# Altium schematic symbol library WE-MXGA.SchLib: 27 symbols
Pins are listed as number, name and electrical type; pins without a type are passive.

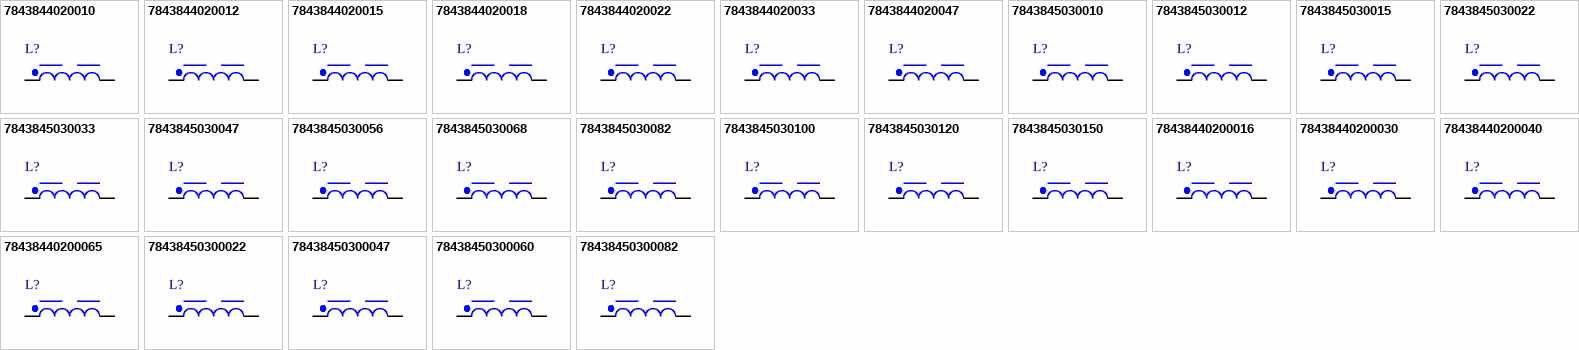
[diagram p0: symbols 7843844020010 to 78438450300082]

## 7843844020010
designator L?, comment 1μH  (value not drawn)
WE-MXGA SMT Power Inductor, size 4020, 1μH, 12.1A, 6.9mΩ; Manufacturer Part Number: 7843844020010; Manufacturer: Wurth Elektronik; Case/Size Code: 4020; DC Resistance Max: 7.9mΩ; Saturation Current @ 10%: 4.9A; Saturation Current @ 30%: 9.8A; Self Resonant Frequency: 59MHz; Category: Power Inductors; Match Code: WE-MXGA; ComponentLink1Description: Website Link; ComponentLink1URL: https://www.we-online.com/redexpert/article/7843844020010?ad; ComponentLink2Description: Datasheet Link; ComponentLink2URL: https://www.we-online.com/redexpert/spec/7843844020010?ad; Mount: Surface Mount; Min Operating Temperature: -40°C; Max Operating Temperature: 125°C; Packaging: Tape and Reel; Length: 4.1mm; Width: 4.1mm; Height: 2.1mm; DC Resistance: 6.9mΩ; Inductance: 1μH; Performance Rated Current: 12.1A; Automotive: Yes
footprint WE-MXGA_4020
footprint WE-MXGA_4020_IPC-7351
pins: 1, 2

## 7843844020012
designator L?, comment 1.2μH  (value not drawn)
WE-MXGA SMT Power Inductor, size 4020, 1.2μH, 11A, 8.4mΩ; Manufacturer Part Number: 7843844020012; Manufacturer: Wurth Elektronik; Case/Size Code: 4020; DC Resistance Max: 9.8mΩ; Saturation Current @ 10%: 4.3A; Saturation Current @ 30%: 8.8A; Self Resonant Frequency: 53MHz; Category: Power Inductors; Match Code: WE-MXGA; ComponentLink1Description: Website Link; ComponentLink1URL: https://www.we-online.com/redexpert/article/7843844020012?ad; ComponentLink2Description: Datasheet Link; ComponentLink2URL: https://www.we-online.com/redexpert/spec/7843844020012?ad; Mount: Surface Mount; Min Operating Temperature: -40°C; Max Operating Temperature: 125°C; Packaging: Tape and Reel; Length: 4.1mm; Width: 4.1mm; Height: 2.1mm; DC Resistance: 8.4mΩ; Inductance: 1.2μH; Performance Rated Current: 11A; Automotive: Yes
footprint WE-MXGA_4020
footprint WE-MXGA_4020_IPC-7351
pins: 1, 2

## 7843844020015
designator L?, comment 1.5μH  (value not drawn)
WE-MXGA SMT Power Inductor, size 4020, 1.5μH, 10.3A, 10mΩ; Manufacturer Part Number: 7843844020015; Manufacturer: Wurth Elektronik; Case/Size Code: 4020; DC Resistance Max: 11.5mΩ; Saturation Current @ 10%: 4.1A; Saturation Current @ 30%: 8.4A; Self Resonant Frequency: 50MHz; Category: Power Inductors; Match Code: WE-MXGA; ComponentLink1Description: Website Link; ComponentLink1URL: https://www.we-online.com/redexpert/article/7843844020015?ad; ComponentLink2Description: Datasheet Link; ComponentLink2URL: https://www.we-online.com/redexpert/spec/7843844020015?ad; Mount: Surface Mount; Min Operating Temperature: -40°C; Max Operating Temperature: 125°C; Packaging: Tape and Reel; Length: 4.1mm; Width: 4.1mm; Height: 2.1mm; DC Resistance: 10mΩ; Inductance: 1.5μH; Performance Rated Current: 10.3A; Automotive: Yes
footprint WE-MXGA_4020
footprint WE-MXGA_4020_IPC-7351
pins: 1, 2

## 7843844020018
designator L?, comment 1.8μH  (value not drawn)
WE-MXGA SMT Power Inductor, size 4020, 1.8μH, 9.5A, 11.9mΩ; Manufacturer Part Number: 7843844020018; Manufacturer: Wurth Elektronik; Case/Size Code: 4020; DC Resistance Max: 13.6mΩ; Saturation Current @ 10%: 3.6A; Saturation Current @ 30%: 7.1A; Self Resonant Frequency: 42MHz; Category: Power Inductors; Match Code: WE-MXGA; ComponentLink1Description: Website Link; ComponentLink1URL: https://www.we-online.com/redexpert/article/7843844020018?ad; ComponentLink2Description: Datasheet Link; ComponentLink2URL: https://www.we-online.com/redexpert/spec/7843844020018?ad; Mount: Surface Mount; Min Operating Temperature: -40°C; Max Operating Temperature: 125°C; Packaging: Tape and Reel; Length: 4.1mm; Width: 4.1mm; Height: 2.1mm; DC Resistance: 11.9mΩ; Inductance: 1.8μH; Performance Rated Current: 9.5A; Automotive: Yes
footprint WE-MXGA_4020
footprint WE-MXGA_4020_IPC-7351
pins: 1, 2

## 7843844020022
designator L?, comment 2.2μH  (value not drawn)
WE-MXGA SMT Power Inductor, size 4020, 2.2μH, 7.8A, 15.6mΩ; Manufacturer Part Number: 7843844020022; Manufacturer: Wurth Elektronik; Case/Size Code: 4020; DC Resistance Max: 17.9mΩ; Saturation Current @ 10%: 2.9A; Saturation Current @ 30%: 5.8A; Self Resonant Frequency: 37MHz; Category: Power Inductors; Match Code: WE-MXGA; ComponentLink1Description: Website Link; ComponentLink1URL: https://www.we-online.com/redexpert/article/7843844020022?ad; ComponentLink2Description: Datasheet Link; ComponentLink2URL: https://www.we-online.com/redexpert/spec/7843844020022?ad; Mount: Surface Mount; Min Operating Temperature: -40°C; Max Operating Temperature: 125°C; Packaging: Tape and Reel; Length: 4.1mm; Width: 4.1mm; Height: 2.1mm; DC Resistance: 15.6mΩ; Inductance: 2.2μH; Performance Rated Current: 7.8A; Automotive: Yes
footprint WE-MXGA_4020
footprint WE-MXGA_4020_IPC-7351
pins: 1, 2

## 7843844020033
designator L?, comment 3.3μH  (value not drawn)
WE-MXGA SMT Power Inductor, size 4020, 3.3μH, 6.1A, 26.6mΩ; Manufacturer Part Number: 7843844020033; Manufacturer: Wurth Elektronik; Case/Size Code: 4020; DC Resistance Max: 30.6mΩ; Saturation Current @ 10%: 2.6A; Saturation Current @ 30%: 5.3A; Self Resonant Frequency: 29MHz; Category: Power Inductors; Match Code: WE-MXGA; ComponentLink1Description: Website Link; ComponentLink1URL: https://www.we-online.com/redexpert/article/7843844020033?ad; ComponentLink2Description: Datasheet Link; ComponentLink2URL: https://www.we-online.com/redexpert/spec/7843844020033?ad; Mount: Surface Mount; Min Operating Temperature: -40°C; Max Operating Temperature: 125°C; Packaging: Tape and Reel; Length: 4.1mm; Width: 4.1mm; Height: 2.1mm; DC Resistance: 26.6mΩ; Inductance: 3.3μH; Performance Rated Current: 6.1A; Automotive: Yes
footprint WE-MXGA_4020
footprint WE-MXGA_4020_IPC-7351
pins: 1, 2

## 7843844020047
designator L?, comment 4.7μH  (value not drawn)
WE-MXGA SMT Power Inductor, size 4020, 4.7μH, 5.2A, 40.3mΩ; Manufacturer Part Number: 7843844020047; Manufacturer: Wurth Elektronik; Case/Size Code: 4020; DC Resistance Max: 46.4mΩ; Saturation Current @ 10%: 2.8A; Saturation Current @ 30%: 5.7A; Self Resonant Frequency: 25MHz; Category: Power Inductors; Match Code: WE-MXGA; ComponentLink1Description: Website Link; ComponentLink1URL: https://www.we-online.com/redexpert/article/7843844020047?ad; ComponentLink2Description: Datasheet Link; ComponentLink2URL: https://www.we-online.com/redexpert/spec/7843844020047?ad; Mount: Surface Mount; Min Operating Temperature: -40°C; Max Operating Temperature: 125°C; Packaging: Tape and Reel; Length: 4.1mm; Width: 4.1mm; Height: 2.1mm; DC Resistance: 40.3mΩ; Inductance: 4.7μH; Performance Rated Current: 5.2A; Automotive: Yes
footprint WE-MXGA_4020
footprint WE-MXGA_4020_IPC-7351
pins: 1, 2

## 7843845030010
designator L?, comment 1μH  (value not drawn)
WE-MXGA SMT Power Inductor, size 5030, 1μH, 15.8A, 5.2mΩ; Manufacturer Part Number: 7843845030010; Manufacturer: Wurth Elektronik; Case/Size Code: 5030; DC Resistance Max: 5.8mΩ; Saturation Current @ 10%: 7A; Saturation Current @ 30%: 14.3A; Self Resonant Frequency: 52MHz; Category: Power Inductors; Match Code: WE-MXGA; ComponentLink1Description: Website Link; ComponentLink1URL: https://www.we-online.com/redexpert/article/7843845030010?ad; ComponentLink2Description: Datasheet Link; ComponentLink2URL: https://www.we-online.com/redexpert/spec/7843845030010?ad; Mount: Surface Mount; Min Operating Temperature: -40°C; Max Operating Temperature: 125°C; Packaging: Tape and Reel; Length: 5.4mm; Width: 5.4mm; Height: 3.1mm; DC Resistance: 5.2mΩ; Inductance: 1μH; Performance Rated Current: 15.8A; Automotive: Yes
footprint WE-MXGA_5030
pins: 1, 2

## 7843845030012
designator L?, comment 1.2μH  (value not drawn)
WE-MXGA SMT Power Inductor, size 5030, 1.2μH, 17.2A, 4.5mΩ; Manufacturer Part Number: 7843845030012; Manufacturer: Wurth Elektronik; Case/Size Code: 5030; DC Resistance Max: 5.2mΩ; Saturation Current @ 10%: 6.8A; Saturation Current @ 30%: 14.3A; Self Resonant Frequency: 43MHz; Category: Power Inductors; Match Code: WE-MXGA; ComponentLink1Description: Website Link; ComponentLink1URL: https://www.we-online.com/redexpert/article/7843845030012?ad; ComponentLink2Description: Datasheet Link; ComponentLink2URL: https://www.we-online.com/redexpert/spec/7843845030012?ad; Mount: Surface Mount; Min Operating Temperature: -40°C; Max Operating Temperature: 125°C; Packaging: Tape and Reel; Length: 5.4mm; Width: 5.4mm; Height: 3.1mm; DC Resistance: 4.5mΩ; Inductance: 1.2μH; Performance Rated Current: 17.2A; Automotive: Yes
footprint WE-MXGA_5030
pins: 1, 2

## 7843845030015
designator L?, comment 1.5μH  (value not drawn)
WE-MXGA SMT Power Inductor, size 5030, 1.5μH, 14.9A, 5.5mΩ; Manufacturer Part Number: 7843845030015; Manufacturer: Wurth Elektronik; Case/Size Code: 5030; DC Resistance Max: 6.3mΩ; Saturation Current @ 10%: 6A; Saturation Current @ 30%: 12.3A; Self Resonant Frequency: 36MHz; Category: Power Inductors; Match Code: WE-MXGA; ComponentLink1Description: Website Link; ComponentLink1URL: https://www.we-online.com/redexpert/article/7843845030015?ad; ComponentLink2Description: Datasheet Link; ComponentLink2URL: https://www.we-online.com/redexpert/spec/7843845030015?ad; Mount: Surface Mount; Min Operating Temperature: -40°C; Max Operating Temperature: 125°C; Packaging: Tape and Reel; Length: 5.4mm; Width: 5.4mm; Height: 3.1mm; DC Resistance: 5.5mΩ; Inductance: 1.5μH; Performance Rated Current: 14.9A; Automotive: Yes
footprint WE-MXGA_5030
pins: 1, 2

## 7843845030022
designator L?, comment 2.2μH  (value not drawn)
WE-MXGA SMT Power Inductor, size 5030, 2.2μH, 12.4A, 8.1mΩ; Manufacturer Part Number: 7843845030022; Manufacturer: Wurth Elektronik; Case/Size Code: 5030; DC Resistance Max: 9.3mΩ; Saturation Current @ 10%: 5.2A; Saturation Current @ 30%: 10.5A; Self Resonant Frequency: 35MHz; Category: Power Inductors; Match Code: WE-MXGA; ComponentLink1Description: Website Link; ComponentLink1URL: https://www.we-online.com/redexpert/article/7843845030022?ad; ComponentLink2Description: Datasheet Link; ComponentLink2URL: https://www.we-online.com/redexpert/spec/7843845030022?ad; Mount: Surface Mount; Min Operating Temperature: -40°C; Max Operating Temperature: 125°C; Packaging: Tape and Reel; Length: 5.4mm; Width: 5.4mm; Height: 3.1mm; DC Resistance: 8.1mΩ; Inductance: 2.2μH; Performance Rated Current: 12.4A; Automotive: Yes
footprint WE-MXGA_5030
pins: 1, 2

## 7843845030033
designator L?, comment 3.3μH  (value not drawn)
WE-MXGA SMT Power Inductor, size 5030, 3.3μH, 10A, 12.9mΩ; Manufacturer Part Number: 7843845030033; Manufacturer: Wurth Elektronik; Case/Size Code: 5030; DC Resistance Max: 14.8mΩ; Saturation Current @ 10%: 4A; Saturation Current @ 30%: 8.2A; Self Resonant Frequency: 25MHz; Category: Power Inductors; Match Code: WE-MXGA; ComponentLink1Description: Website Link; ComponentLink1URL: https://www.we-online.com/redexpert/article/7843845030033?ad; ComponentLink2Description: Datasheet Link; ComponentLink2URL: https://www.we-online.com/redexpert/spec/7843845030033?ad; Mount: Surface Mount; Min Operating Temperature: -40°C; Max Operating Temperature: 125°C; Packaging: Tape and Reel; Length: 5.4mm; Width: 5.4mm; Height: 3.1mm; DC Resistance: 12.9mΩ; Inductance: 3.3μH; Performance Rated Current: 10A; Automotive: Yes
footprint WE-MXGA_5030
pins: 1, 2

## 7843845030047
designator L?, comment 4.7μH  (value not drawn)
WE-MXGA SMT Power Inductor, size 5030, 4.7μH, 8.2A, 22.5mΩ; Manufacturer Part Number: 7843845030047; Manufacturer: Wurth Elektronik; Case/Size Code: 5030; DC Resistance Max: 24.5mΩ; Saturation Current @ 10%: 3.7A; Saturation Current @ 30%: 7.7A; Self Resonant Frequency: 21MHz; Category: Power Inductors; Match Code: WE-MXGA; ComponentLink1Description: Website Link; ComponentLink1URL: https://www.we-online.com/redexpert/article/7843845030047?ad; ComponentLink2Description: Datasheet Link; ComponentLink2URL: https://www.we-online.com/redexpert/spec/7843845030047?ad; Mount: Surface Mount; Min Operating Temperature: -40°C; Max Operating Temperature: 125°C; Packaging: Tape and Reel; Length: 5.4mm; Width: 5.4mm; Height: 3.1mm; DC Resistance: 22.5mΩ; Inductance: 4.7μH; Performance Rated Current: 8.2A; Automotive: Yes
footprint WE-MXGA_5030
pins: 1, 2

## 7843845030056
designator L?, comment 5.6μH  (value not drawn)
WE-MXGA SMT Power Inductor, size 5030, 5.6μH, 7.1A, 24.5mΩ; Manufacturer Part Number: 7843845030056; Manufacturer: Wurth Elektronik; Case/Size Code: 5030; DC Resistance Max: 27mΩ; Saturation Current @ 10%: 3.3A; Saturation Current @ 30%: 6.8A; Self Resonant Frequency: 19MHz; Category: Power Inductors; Match Code: WE-MXGA; ComponentLink1Description: Website Link; ComponentLink1URL: https://www.we-online.com/redexpert/article/7843845030056?ad; ComponentLink2Description: Datasheet Link; ComponentLink2URL: https://www.we-online.com/redexpert/spec/7843845030056?ad; Mount: Surface Mount; Min Operating Temperature: -40°C; Max Operating Temperature: 125°C; Packaging: Tape and Reel; Length: 5.4mm; Width: 5.4mm; Height: 3.1mm; DC Resistance: 24.5mΩ; Inductance: 5.6μH; Performance Rated Current: 7.1A; Automotive: Yes
footprint WE-MXGA_5030
pins: 1, 2

## 7843845030068
designator L?, comment 6.8μH  (value not drawn)
WE-MXGA SMT Power Inductor, size 5030, 6.8μH, 6.5A, 28.3mΩ; Manufacturer Part Number: 7843845030068; Manufacturer: Wurth Elektronik; Case/Size Code: 5030; DC Resistance Max: 31.7mΩ; Saturation Current @ 10%: 3.2A; Saturation Current @ 30%: 6.8A; Self Resonant Frequency: 18MHz; Category: Power Inductors; Match Code: WE-MXGA; ComponentLink1Description: Website Link; ComponentLink1URL: https://www.we-online.com/redexpert/article/7843845030068?ad; ComponentLink2Description: Datasheet Link; ComponentLink2URL: https://www.we-online.com/redexpert/spec/7843845030068?ad; Mount: Surface Mount; Min Operating Temperature: -40°C; Max Operating Temperature: 125°C; Packaging: Tape and Reel; Length: 5.4mm; Width: 5.4mm; Height: 3.1mm; DC Resistance: 28.3mΩ; Inductance: 6.8μH; Performance Rated Current: 6.5A; Automotive: Yes
footprint WE-MXGA_5030
pins: 1, 2

## 7843845030082
designator L?, comment 8.2μH  (value not drawn)
WE-MXGA SMT Power Inductor, size 5030, 8.2μH, 6.1A, 34mΩ; Manufacturer Part Number: 7843845030082; Manufacturer: Wurth Elektronik; Case/Size Code: 5030; DC Resistance Max: 39mΩ; Saturation Current @ 10%: 2.6A; Saturation Current @ 30%: 5.9A; Self Resonant Frequency: 15MHz; Category: Power Inductors; Match Code: WE-MXGA; ComponentLink1Description: Website Link; ComponentLink1URL: https://www.we-online.com/redexpert/article/7843845030082?ad; ComponentLink2Description: Datasheet Link; ComponentLink2URL: https://www.we-online.com/redexpert/spec/7843845030082?ad; Mount: Surface Mount; Min Operating Temperature: -40°C; Max Operating Temperature: 125°C; Packaging: Tape and Reel; Length: 5.4mm; Width: 5.4mm; Height: 3.1mm; DC Resistance: 34mΩ; Inductance: 8.2μH; Performance Rated Current: 6.1A; Automotive: Yes
footprint WE-MXGA_5030
pins: 1, 2

## 7843845030100
designator L?, comment 10μH  (value not drawn)
WE-MXGA SMT Power Inductor, size 5030, 10μH, 5.5A, 41.5mΩ; Manufacturer Part Number: 7843845030100; Manufacturer: Wurth Elektronik; Case/Size Code: 5030; DC Resistance Max: 47.7mΩ; Saturation Current @ 10%: 2.5A; Saturation Current @ 30%: 5.4A; Self Resonant Frequency: 12MHz; Category: Power Inductors; Match Code: WE-MXGA; ComponentLink1Description: Website Link; ComponentLink1URL: https://www.we-online.com/redexpert/article/7843845030100?ad; ComponentLink2Description: Datasheet Link; ComponentLink2URL: https://www.we-online.com/redexpert/spec/7843845030100?ad; Mount: Surface Mount; Min Operating Temperature: -40°C; Max Operating Temperature: 125°C; Packaging: Tape and Reel; Length: 5.4mm; Width: 5.4mm; Height: 3.1mm; DC Resistance: 41.5mΩ; Inductance: 10μH; Performance Rated Current: 5.5A; Automotive: Yes
footprint WE-MXGA_5030
pins: 1, 2

## 7843845030120
designator L?, comment 12μH  (value not drawn)
WE-MXGA SMT Power Inductor, size 5030, 12μH, 5A, 52.3mΩ; Manufacturer Part Number: 7843845030120; Manufacturer: Wurth Elektronik; Case/Size Code: 5030; DC Resistance Max: 57mΩ; Saturation Current @ 10%: 2.1A; Saturation Current @ 30%: 4.9A; Self Resonant Frequency: 11MHz; Category: Power Inductors; Match Code: WE-MXGA; ComponentLink1Description: Website Link; ComponentLink1URL: https://www.we-online.com/redexpert/article/7843845030120?ad; ComponentLink2Description: Datasheet Link; ComponentLink2URL: https://www.we-online.com/redexpert/spec/7843845030120?ad; Mount: Surface Mount; Min Operating Temperature: -40°C; Max Operating Temperature: 125°C; Packaging: Tape and Reel; Length: 5.4mm; Width: 5.4mm; Height: 3.1mm; DC Resistance: 52.3mΩ; Inductance: 12μH; Performance Rated Current: 5A; Automotive: Yes
footprint WE-MXGA_5030
pins: 1, 2

## 7843845030150
designator L?, comment 15μH  (value not drawn)
WE-MXGA SMT Power Inductor, size 5030, 15μH, 4.5A, 64.5mΩ; Manufacturer Part Number: 7843845030150; Manufacturer: Wurth Elektronik; Case/Size Code: 5030; DC Resistance Max: 74.4mΩ; Saturation Current @ 10%: 1.9A; Saturation Current @ 30%: 4.3A; Self Resonant Frequency: 10MHz; Category: Power Inductors; Match Code: WE-MXGA; ComponentLink1Description: Website Link; ComponentLink1URL: https://www.we-online.com/redexpert/article/7843845030150?ad; ComponentLink2Description: Datasheet Link; ComponentLink2URL: https://www.we-online.com/redexpert/spec/7843845030150?ad; Mount: Surface Mount; Min Operating Temperature: -40°C; Max Operating Temperature: 125°C; Packaging: Tape and Reel; Length: 5.4mm; Width: 5.4mm; Height: 3.1mm; DC Resistance: 64.5mΩ; Inductance: 15μH; Performance Rated Current: 4.5A; Automotive: Yes
footprint WE-MXGA_5030
pins: 1, 2

## 78438440200016
designator L?, comment 0.16μH  (value not drawn)
WE-MXGA SMT Power Inductor, size 4020, 0.16μH, 24.2A, 1.5mΩ; Manufacturer Part Number: 78438440200016; Manufacturer: Wurth Elektronik; Case/Size Code: 4020; DC Resistance Max: 1.7mΩ; Saturation Current @ 10%: 12A; Saturation Current @ 30%: 27.9A; Self Resonant Frequency: 197MHz; Category: Power Inductors; Match Code: WE-MXGA; ComponentLink1Description: Website Link; ComponentLink1URL: https://www.we-online.com/redexpert/article/78438440200016?ad; ComponentLink2Description: Datasheet Link; ComponentLink2URL: https://www.we-online.com/redexpert/spec/78438440200016?ad; Mount: Surface Mount; Min Operating Temperature: -40°C; Max Operating Temperature: 125°C; Packaging: Tape and Reel; Length: 4.1mm; Width: 4.1mm; Height: 2.1mm; DC Resistance: 1.5mΩ; Inductance: 0.16μH; Performance Rated Current: 24.2A; Automotive: Yes
footprint WE-MXGA_4020
footprint WE-MXGA_4020_IPC-7351
pins: 1, 2

## 78438440200030
designator L?, comment 0.3μH  (value not drawn)
WE-MXGA SMT Power Inductor, size 4020, 0.3μH, 23.2A, 2mΩ; Manufacturer Part Number: 78438440200030; Manufacturer: Wurth Elektronik; Case/Size Code: 4020; DC Resistance Max: 2.3mΩ; Saturation Current @ 10%: 8.4A; Saturation Current @ 30%: 17.6A; Self Resonant Frequency: 135MHz; Category: Power Inductors; Match Code: WE-MXGA; ComponentLink1Description: Website Link; ComponentLink1URL: https://www.we-online.com/redexpert/article/78438440200030?ad; ComponentLink2Description: Datasheet Link; ComponentLink2URL: https://www.we-online.com/redexpert/spec/78438440200030?ad; Mount: Surface Mount; Min Operating Temperature: -40°C; Max Operating Temperature: 125°C; Packaging: Tape and Reel; Length: 4.1mm; Width: 4.1mm; Height: 2.1mm; DC Resistance: 2mΩ; Inductance: 0.3μH; Performance Rated Current: 23.2A; Automotive: Yes
footprint WE-MXGA_4020
footprint WE-MXGA_4020_IPC-7351
pins: 1, 2

## 78438440200040
designator L?, comment 0.4μH  (value not drawn)
WE-MXGA SMT Power Inductor, size 4020, 0.4μH, 16.9A, 3.8mΩ; Manufacturer Part Number: 78438440200040; Manufacturer: Wurth Elektronik; Case/Size Code: 4020; DC Resistance Max: 4.4mΩ; Saturation Current @ 10%: 7.3A; Saturation Current @ 30%: 14.8A; Self Resonant Frequency: 122MHz; Category: Power Inductors; Match Code: WE-MXGA; ComponentLink1Description: Website Link; ComponentLink1URL: https://www.we-online.com/redexpert/article/78438440200040?ad; ComponentLink2Description: Datasheet Link; ComponentLink2URL: https://www.we-online.com/redexpert/spec/78438440200040?ad; Mount: Surface Mount; Min Operating Temperature: -40°C; Max Operating Temperature: 125°C; Packaging: Tape and Reel; Length: 4.1mm; Width: 4.1mm; Height: 2.1mm; DC Resistance: 3.8mΩ; Inductance: 0.4μH; Performance Rated Current: 16.9A; Automotive: Yes
footprint WE-MXGA_4020
footprint WE-MXGA_4020_IPC-7351
pins: 1, 2

## 78438440200065
designator L?, comment 0.65μH  (value not drawn)
WE-MXGA SMT Power Inductor, size 4020, 0.65μH, 15.2A, 4.8mΩ; Manufacturer Part Number: 78438440200065; Manufacturer: Wurth Elektronik; Case/Size Code: 4020; DC Resistance Max: 5.5mΩ; Saturation Current @ 10%: 6.2A; Saturation Current @ 30%: 12.6A; Self Resonant Frequency: 80MHz; Category: Power Inductors; Match Code: WE-MXGA; ComponentLink1Description: Website Link; ComponentLink1URL: https://www.we-online.com/redexpert/article/78438440200065?ad; ComponentLink2Description: Datasheet Link; ComponentLink2URL: https://www.we-online.com/redexpert/spec/78438440200065?ad; Mount: Surface Mount; Min Operating Temperature: -40°C; Max Operating Temperature: 125°C; Packaging: Tape and Reel; Length: 4.1mm; Width: 4.1mm; Height: 2.1mm; DC Resistance: 4.8mΩ; Inductance: 0.65μH; Performance Rated Current: 15.2A; Automotive: Yes
footprint WE-MXGA_4020
footprint WE-MXGA_4020_IPC-7351
pins: 1, 2

## 78438450300022
designator L?, comment 0.22μH  (value not drawn)
WE-MXGA SMT Power Inductor, size 5030, 0.22μH, 28.1A, 1.5mΩ; Manufacturer Part Number: 78438450300022; Manufacturer: Wurth Elektronik; Case/Size Code: 5030; DC Resistance Max: 1.7mΩ; Saturation Current @ 10%: 11.8A; Saturation Current @ 30%: 25.4A; Self Resonant Frequency: 155MHz; Category: Power Inductors; Match Code: WE-MXGA; ComponentLink1Description: Website Link; ComponentLink1URL: https://www.we-online.com/redexpert/article/78438450300022?ad; ComponentLink2Description: Datasheet Link; ComponentLink2URL: https://www.we-online.com/redexpert/spec/78438450300022?ad; Mount: Surface Mount; Min Operating Temperature: -40°C; Max Operating Temperature: 125°C; Packaging: Tape and Reel; Length: 5.4mm; Width: 5.4mm; Height: 3.1mm; DC Resistance: 1.5mΩ; Inductance: 0.22μH; Performance Rated Current: 28.1A; Automotive: Yes
footprint WE-MXGA_5030
pins: 1, 2

## 78438450300047
designator L?, comment 0.47μH  (value not drawn)
WE-MXGA SMT Power Inductor, size 5030, 0.47μH, 23A, 2.4mΩ; Manufacturer Part Number: 78438450300047; Manufacturer: Wurth Elektronik; Case/Size Code: 5030; DC Resistance Max: 2.8mΩ; Saturation Current @ 10%: 9.4A; Saturation Current @ 30%: 20A; Self Resonant Frequency: 84MHz; Category: Power Inductors; Match Code: WE-MXGA; ComponentLink1Description: Website Link; ComponentLink1URL: https://www.we-online.com/redexpert/article/78438450300047?ad; ComponentLink2Description: Datasheet Link; ComponentLink2URL: https://www.we-online.com/redexpert/spec/78438450300047?ad; Mount: Surface Mount; Min Operating Temperature: -40°C; Max Operating Temperature: 125°C; Packaging: Tape and Reel; Length: 5.4mm; Width: 5.4mm; Height: 3.1mm; DC Resistance: 2.4mΩ; Inductance: 0.47μH; Performance Rated Current: 23A; Automotive: Yes
footprint WE-MXGA_5030
pins: 1, 2

## 78438450300060
designator L?, comment 0.6μH  (value not drawn)
WE-MXGA SMT Power Inductor, size 5030, 0.6μH, 21.5A, 2.8mΩ; Manufacturer Part Number: 78438450300060; Manufacturer: Wurth Elektronik; Case/Size Code: 5030; DC Resistance Max: 3.2mΩ; Saturation Current @ 10%: 9.5A; Saturation Current @ 30%: 21.2A; Self Resonant Frequency: 73MHz; Category: Power Inductors; Match Code: WE-MXGA; ComponentLink1Description: Website Link; ComponentLink1URL: https://www.we-online.com/redexpert/article/78438450300060?ad; ComponentLink2Description: Datasheet Link; ComponentLink2URL: https://www.we-online.com/redexpert/spec/78438450300060?ad; Mount: Surface Mount; Min Operating Temperature: -40°C; Max Operating Temperature: 125°C; Packaging: Tape and Reel; Length: 5.4mm; Width: 5.4mm; Height: 3.1mm; DC Resistance: 2.8mΩ; Inductance: 0.6μH; Performance Rated Current: 21.5A; Automotive: Yes
footprint WE-MXGA_5030
pins: 1, 2

## 78438450300082
designator L?, comment 0.82μH  (value not drawn)
WE-MXGA SMT Power Inductor, size 5030, 0.82μH, 19A, 3.5mΩ; Manufacturer Part Number: 78438450300082; Manufacturer: Wurth Elektronik; Case/Size Code: 5030; DC Resistance Max: 4mΩ; Saturation Current @ 10%: 8.1A; Saturation Current @ 30%: 16.7A; Self Resonant Frequency: 55MHz; Category: Power Inductors; Match Code: WE-MXGA; ComponentLink1Description: Website Link; ComponentLink1URL: https://www.we-online.com/redexpert/article/78438450300082?ad; ComponentLink2Description: Datasheet Link; ComponentLink2URL: https://www.we-online.com/redexpert/spec/78438450300082?ad; Mount: Surface Mount; Min Operating Temperature: -40°C; Max Operating Temperature: 125°C; Packaging: Tape and Reel; Length: 5.4mm; Width: 5.4mm; Height: 3.1mm; DC Resistance: 3.5mΩ; Inductance: 0.82μH; Performance Rated Current: 19A; Automotive: Yes
footprint WE-MXGA_5030
pins: 1, 2